# Altium schematic symbol library Samtec.SchLib: 4 symbols
Pins are listed as number, name and electrical type; pins without a type are passive.

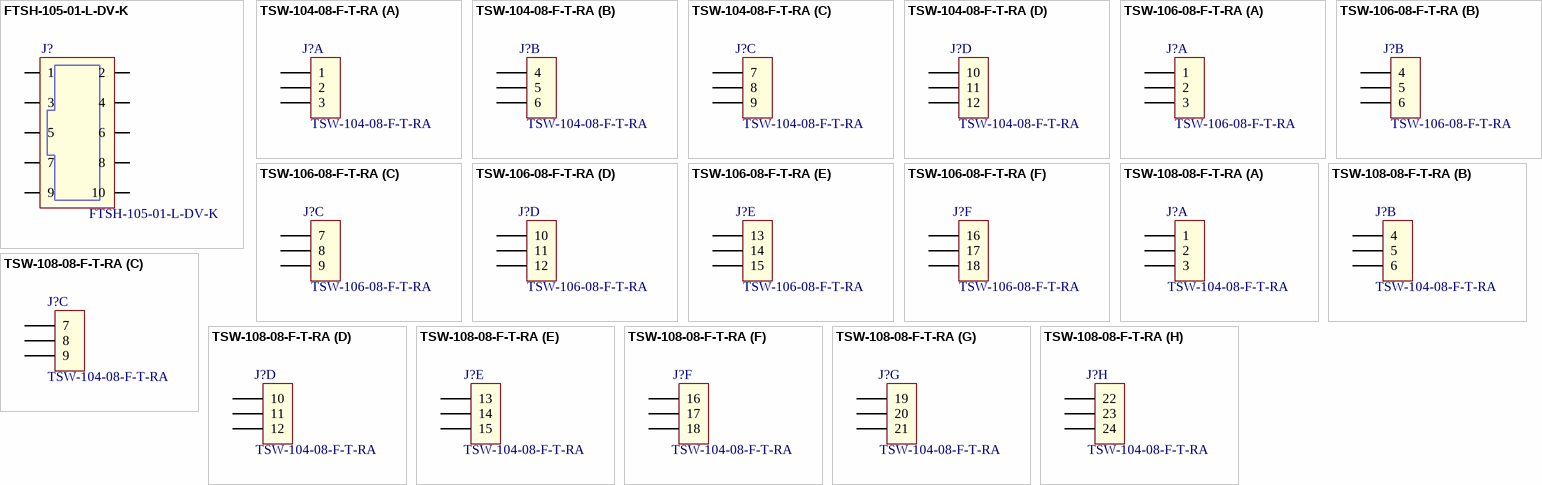
[diagram p0: symbols FTSH-105-01-L-DV-K to TSW-108-08-F-T-RA]

## FTSH-105-01-L-DV-K
designator J?
CONN HEADER 10 POS DUAL .05" SMD with Keying; Manufacturer: SAMTEC; Supplier 1: Digi-Key; Manufacturer Part Number: FTSH-105-01-L-DV-K; ComponentLink1URL: http://suddendocs.samtec.com/prints/ftsh-1xx-xx-xxx-dv-xxx-xxx-mkt.pdf; ComponentLink1Description: Datasheet; Supplier Part Number 1: SAM8799-ND
footprint FTSH-105-01-L-DV-K (CONN HEADER 10 POS DUAL .05" SMD)
pins: 1, 2, 3, 4, 5, 6, 7, 8, 9, 10

## TSW-104-08-F-T-RA
designator J?
CONN HEADER R/A 3L x 4POS 2.54MM; Manufacturer: SAMTEC; Manufacturer Part Number: TSW-104-08-F-T-RA; Supplier 1: Farnell; Supplier Part Number 1: 2053041; ComponentLink1Description: Datasheet; ComponentLink1URL: http://cloud.samtec.com/catalog_english/TSW_TH.PDF
footprint TSW-104-08-F-T-RA
part A pins: 1, 2, 3
part B pins: 4, 5, 6
part C pins: 7, 8, 9
part D pins: 10, 11, 12

## TSW-106-08-F-T-RA
designator J?
CONN HEADER R/A 3L x 6POS 2.54MM; Manufacturer: SAMTEC; Manufacturer Part Number: TSW-106-08-F-T-RA; ComponentLink1Description: Datasheet; ComponentLink1URL: http://cloud.samtec.com/catalog_english/TSW_TH.PDF; Supplier 1: Farnell; Supplier Part Number 1: 2053043
footprint TSW-106-08-F-T-RA
part A pins: 1, 2, 3
part B pins: 4, 5, 6
part C pins: 7, 8, 9
part D pins: 10, 11, 12
part E pins: 13, 14, 15
part F pins: 16, 17, 18

## TSW-108-08-F-T-RA
designator J?, comment TSW-104-08-F-T-RA
CONN HEADER R/A 3L x 8POS 2.54MM; Manufacturer: SAMTEC; Manufacturer Part Number: TSW-104-08-F-T-RA; Supplier 1: Farnell; ComponentLink1Description: Datasheet; ComponentLink1URL: http://cloud.samtec.com/catalog_english/TSW_TH.PDF; Supplier Part Number 1: 2053046
footprint TSW-108-08-F-T-RA
part A pins: 1, 2, 3
part B pins: 4, 5, 6
part C pins: 7, 8, 9
part D pins: 10, 11, 12
part E pins: 13, 14, 15
part F pins: 16, 17, 18
part G pins: 19, 20, 21
part H pins: 22, 23, 24